# Altium schematic symbol library PHE820EB6100MR17.Schlib: 1 symbol
Pins are listed as number, name and electrical type; pins without a type are passive.

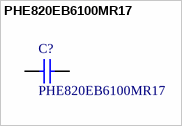
[diagram p0: symbol PHE820EB6100MR17]

## PHE820EB6100MR17
designator C?
Capacitor
pins: 1, 2